# Altium footprint library mechanical.PcbLib: 3 footprints
Each footprint in its own frame and in the unit in brackets; x right, y up, seen from the top. Pads: shape width x height; smd on the part's side, far side on the other; paste and mask are expansions set on the pad; w line width, h text height; cw(c..) or ccw(c..) is an arc to the next point about the centre after c.
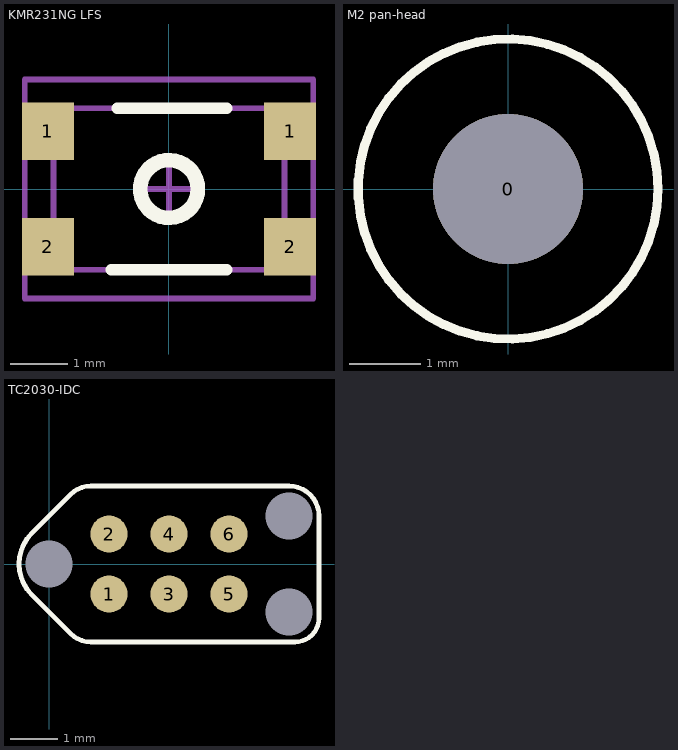
[diagram p0: the footprints below, top view; thin cyan lines are the x and y axes]

## KMR231NG LFS [mm]
pads (4):
  rect 0.9x1 smd: 1(-2.1,1) 1(2.1,1) 2(-2.1,-1) 2(2.1,-1)
Top Overlay:
  circle w0.254: c0,0 r0.5
  lines w0.2: -1,-1.4 1,-1.4 ; -0.9,1.4 1,1.4
Assembly Text Top:
  text ".Designator" at -1.5,-0.2 h0.5
Assembly Top:
  lines w0.1: -2,-1.4 -2,1.4 2,1.4 2,-1.4 -2,-1.4
Courtyard Top:
  lines w0.1: -0.5,0 0.5,0 ; 0,-0.5 0,0.5 ; -2.5,-1.9 -2.5,1.9 2.5,1.9 2.5,-1.9 -2.5,-1.9
3D body: height 2, standoff 0, extent -1,-0.8 1,0.8
3D body: height 1.4, standoff 0, extent -2,-1.4 2,1.4

## M2 pan-head [mm] "M2 hole with pan head screw clearance"
pads (1):
  round 2.1 hole 2.1 unplated: 0(0,0)
Top Overlay:
  circle w0.127: c0,0 r2.1

## TC2030-IDC [mil]
pads (9):
  round 31 smd paste-16: 1(50,-25) 2(50,25) 3(100,-25) 4(100,25) 5(150,-25) 6(150,25)
  round 1 hole 39 unplated: ""(0,0) ""(200,-40) ""(200,40)
Top Overlay:
  lines w3.94: -25,0 cw(c11.21,0) -14.39,25.61 17.93,57.93 cw(c35,40.86) 35,65 200,65 cw(c200,40) 225,40 225,-45 cw(c205,-45) 205,-65 35,-65 cw(c35,-40.86) 17.93,-57.93 -14.39,-25.61 cw(c11.21,0) -25,0
3D body: height 1136.08, standoff -98.92, extent -95,-120 295,120